# EAGLE library part 8DIP-WIDE (library C8051F300)
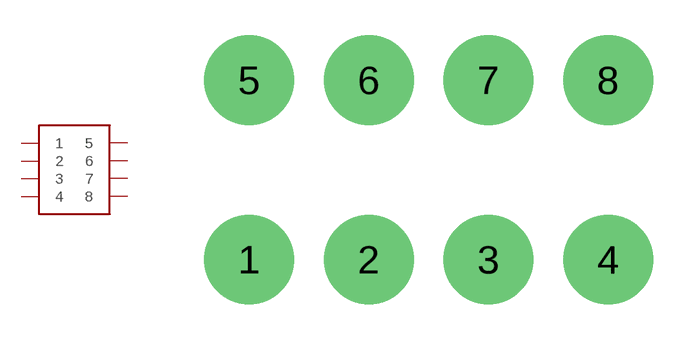
[diagram p22: symbol with the pads of 8DIP-WIDE; footprint 8DIP-WIDE]

Designator prefix CN

## 8DIP-WIDE  [8DIP-WIDE]
1  1
2  2
3  3
4  4
5  5
6  6
7  7
8  8

## Footprint 8DIP-WIDE (pad centres in mm)
drill 1.3 pad 3.81 round: 1 -7.62,0; 2 -2.54,0; 3 2.54,0; 4 7.62,0; 5 -7.62,7.62; 6 -2.54,7.62; 7 2.54,7.62; 8 7.62,7.62